# EAGLE library part HEADER-2X05 (library Header and Connector)
Header - 2X05
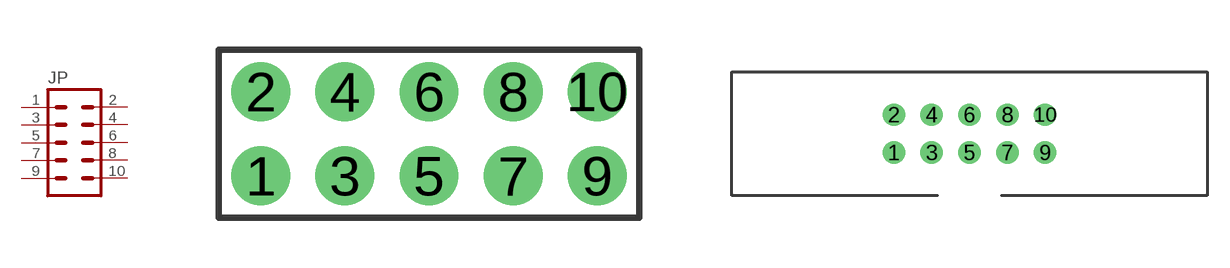
[diagram p10: symbol with the pads of HDR-F2X05; footprints HDR-F2X05, IDC-2X05-LATCH]

Designator prefix JP

## HEADER-2X05_(FEMALE) (CYTRON-PC: CN-PH-F240S; DESC: Female Header - 2x40 Ways; VALUE: 5/40 Ways)  [HDR-F2X05]
1  1  pas
2  2  pas
3  3  pas
4  4  pas
5  5  pas
6  6  pas
7  7  pas
8  8  pas
9  9  pas
10  10  pas

## HEADER-2X05_(IDC-LATCH) (DESC: 10 Ways Straight Box Header Latch; VALUE: 10 Ways)  [IDC-2X05-LATCH]
Pads as for HDR-F2X05

## Footprint HDR-F2X05 (pad centres in mm)
Female Header - 2X05
drill 1.016 pad 1.778: 1 0,0; 2 0,2.54; 3 2.54,0; 4 2.54,2.54; 5 5.08,0; 6 5.08,2.54; 7 7.62,0; 8 7.62,2.54; 9 10.16,0; 10 10.16,2.54

## Footprint IDC-2X05-LATCH (pad centres in mm)
IDC Box Header (Latch) - 2x05 Ways Created by: Wai Weng
drill 1: 1 -5.08,-1.27; 2 -5.08,1.27; 3 -2.54,-1.27; 4 -2.54,1.27; 5 0,-1.27; 6 0,1.27; 7 2.54,-1.27; 8 2.54,1.27; 9 5.08,-1.27; 10 5.08,1.27